# Altium footprint library sensor.PcbLib: 13 footprints
Each footprint in its own frame and in the unit in brackets; x right, y up, seen from the top. Pads: shape width x height; smd on the part's side, far side on the other; paste and mask are expansions set on the pad; w line width, h text height; cw(c..) or ccw(c..) is an arc to the next point about the centre after c.
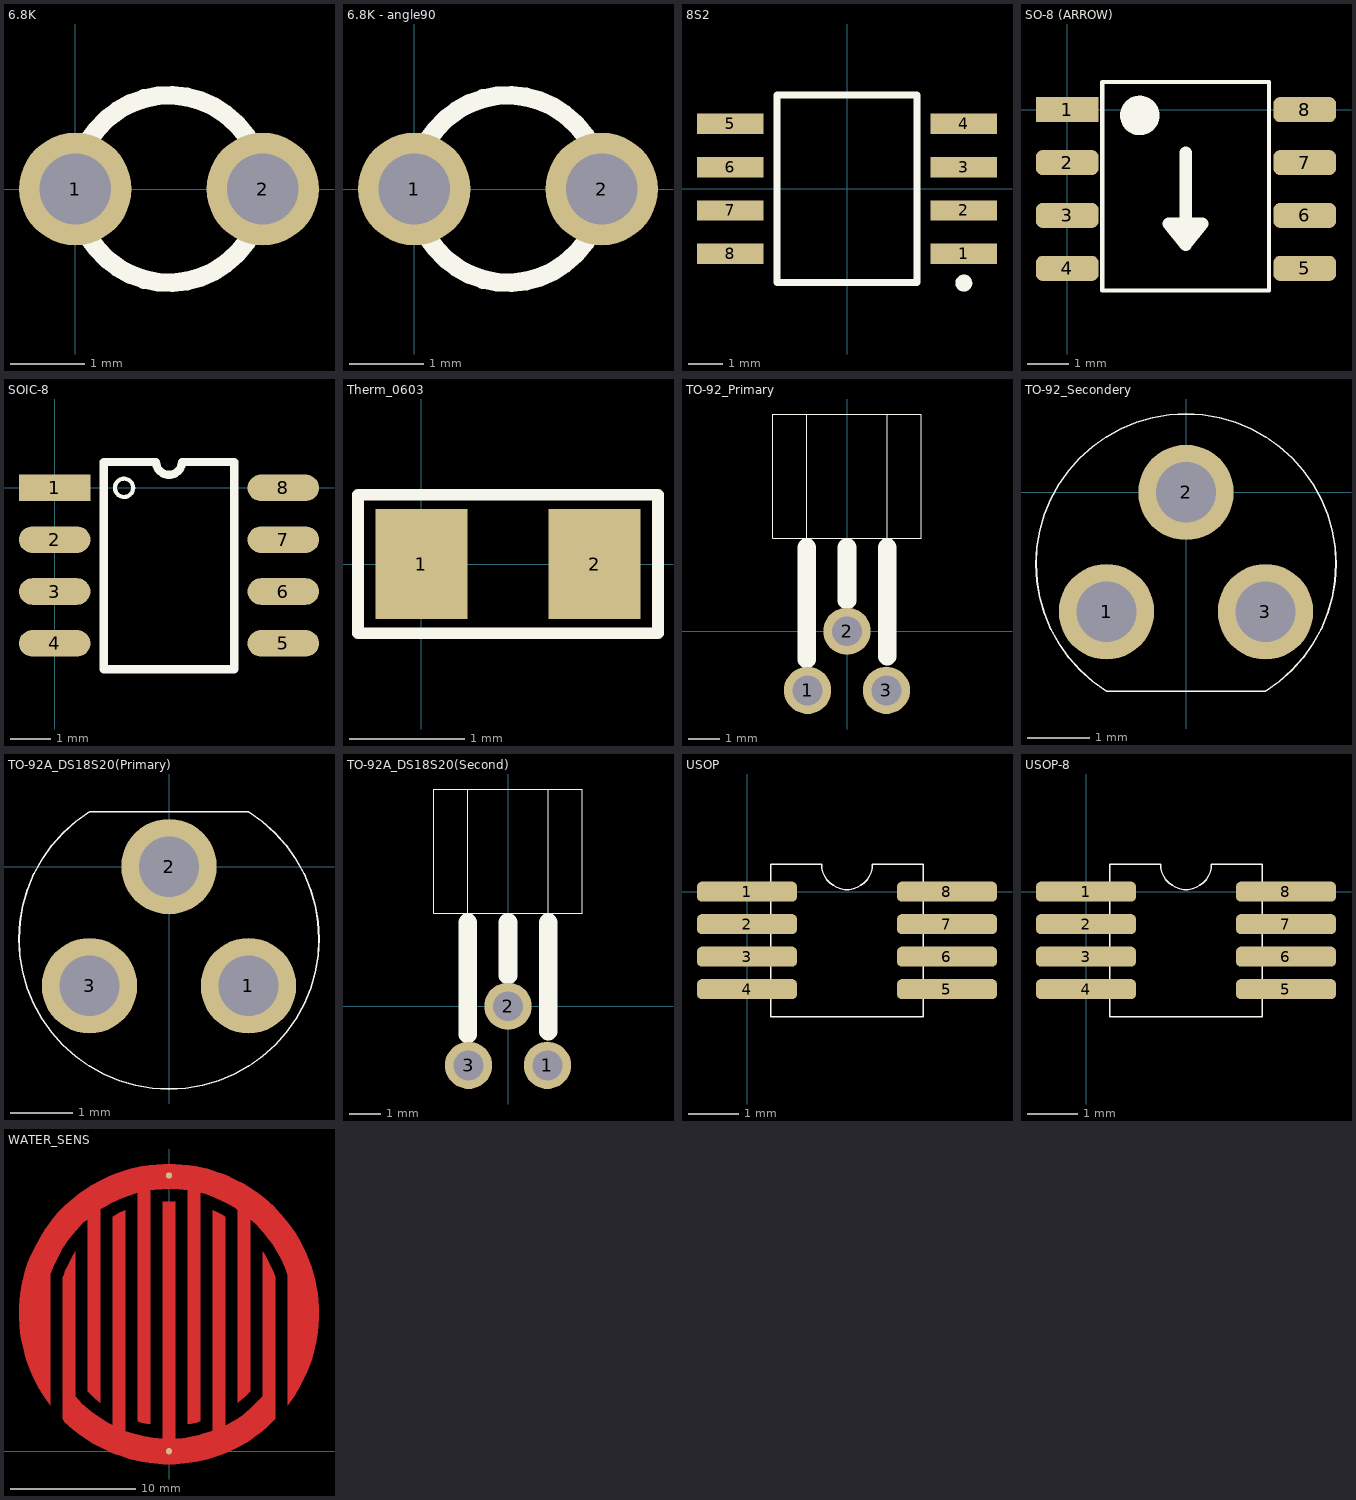
[diagram p0: the footprints below, top view; thin cyan lines are the x and y axes]

## 6.8K [mil]
pads (2):
  round 60 hole 38: 1(0,0) 2(100,0)
Top Overlay:
  circle w10: c50,0 r50
3D body "NTC-6,8k.sldprt": height 413.41, standoff -66.93, extent -14.52,-41.33 114.52,41.34

## 6.8K - angle90 [mil]
pads (2):
  round 60 hole 38: 1(0,0) 2(100,0)
Top Overlay:
  circle w10: c50,0 r50
3D body "NTC-6,8k.STEP": height 100.39, standoff -82.68, extent -14.32,-366.17 114.72,9.84

## 8S2 [mm]
pads (8):
  rect 1.95x0.6 smd: 1(3.425,-1.905) 2(3.425,-0.635) 3(3.425,0.635) 4(3.425,1.905) 5(-3.425,1.905) 6(-3.425,0.635) 7(-3.425,-0.635) 8(-3.425,-1.905)
Top Overlay:
  circle w0.25: c3.425,-2.765 r0.125
  lines w0.2: -2.05,-2.75 -2.05,2.75 2.05,2.75 2.05,-2.75 0.683,-2.75 -2.05,-2.75

## SO-8 (ARROW) [mm]
pads (8):
  rect 1.5x0.6 smd: 1(0,0)
  rrect50% 1.5x0.6 smd: 2(0,-1.27) 3(0,-2.54) 4(0,-3.81) 5(5.7,-3.81) 6(5.7,-2.54) 7(5.7,-1.27) 8(5.7,0)
Top Overlay:
  circle w0.5: c1.74,-0.14 r0.224
  lines w0.1: 0.84,-4.34 4.84,-4.34 4.84,0.66 0.84,0.66 0.84,-4.34
  lines w0.3: 2.84,-1.04 2.84,-3.24 ; 2.84,-3.24 2.44,-2.74 2.84,-2.74 3.24,-2.74 2.84,-3.24

## SOIC-8 [mm]
pads (8):
  rect 1.75x0.65 smd: 1(0,0)
  oval 1.75x0.65 smd: 2(0,-1.27) 3(0,-2.54) 4(0,-3.81) 5(5.6,-3.81) 6(5.6,-2.54) 7(5.6,-1.27) 8(5.6,0)
Top Overlay:
  circle w0.1: c1.7,0 r0.224
  lines w0.2: 1.2,-4.445 1.2,0.635 2.482,0.635 ccw(c2.8,0.635) 3.117,0.635 4.4,0.635 4.4,-4.445 1.2,-4.445

## Therm_0603 [mm]
pads (2):
  rect 0.8x0.95 smd: 1(0,0) 2(1.5,0)
Top Overlay:
  lines w0.1: -0.55,-0.6 2.05,-0.6 2.05,0.6 -0.55,0.6 -0.55,-0.6
3D body "res 0603.step": height 0.46, standoff -0.01, extent -0.052,-0.412 1.552,0.413

## TO-92_Primary [mil]
pads (3):
  round 60 hole 38: 1(-50,-75) 2(0,0) 3(50,-75)
Top Overlay:
  lines w1: -51.18,118.11 -51.18,275.59 ; 51.18,114.17 51.18,275.59 ; -94.49,118.11 94.49,118.11 94.49,275.59 -94.49,275.59 -94.49,118.11
  lines w23.62: -51.18,-35.43 -51.18,106.3 ; 0,39.37 0,106.3 ; 51.18,-31.5 51.18,106.3

## TO-92_Secondery [mil]
pads (3):
  round 60 hole 38: 1(-50,-75) 2(0,0) 3(50,-75)
Top Overlay:
  lines w1: -49.99,-125 cw(c0,-45) 49.99,-125 -50,-125

## TO-92A_DS18S20(Primary) [mil]
pads (3):
  round 60 hole 38: 1(50,-75) 2(0,0) 3(-50,-75)
Top Overlay:
  lines w1: -49.99,34.45 ccw(c0,-45.55) 49.99,34.45 -50,34.45

## TO-92A_DS18S20(Second) [mil]
pads (3):
  round 60 hole 38: 1(50,-75) 2(0,0) 3(-50,-75)
Top Overlay:
  lines w1: -51.18,118.11 -51.18,275.59 ; 51.18,114.17 51.18,275.59 ; -94.49,118.11 94.49,118.11 94.49,275.59 -94.49,275.59 -94.49,118.11
  lines w23.62: -51.18,-35.43 -51.18,106.3 ; 0,39.37 0,106.3 ; 51.18,-31.5 51.18,106.3

## USOP [mm]
pads (8):
  rrect50% 2x0.4 smd: 1(0,0) 2(0,-0.65) 3(0,-1.3) 4(0,-1.95) 5(4,-1.95) 6(4,-1.3) 7(4,-0.65) 8(4,0)
Top Overlay:
  lines w0.025: 0.475,-2.5 3.525,-2.5 3.525,0.55 2.508,0.55 cw(c2,0.55) 1.492,0.55 0.475,0.55 0.475,-2.5

## USOP-8 [mm]
pads (8):
  rrect50% 2x0.4 smd: 1(0,0) 2(0,-0.65) 3(0,-1.3) 4(0,-1.95) 5(4,-1.95) 6(4,-1.3) 7(4,-0.65) 8(4,0)
Top Overlay:
  lines w0.025: 0.475,-2.5 3.525,-2.5 3.525,0.55 2.508,0.55 cw(c2,0.55) 1.492,0.55 0.475,0.55 0.475,-2.5

## WATER_SENS [mm]
pads (2):
  round 0.5 smd: 1(0,0) 2(0,22.1)
Top Layer:
  region: 0.5,23.02 -0.1,23.02 -0.5,23.02 -1.6,22.92 -2.2,22.82 -3.1,22.62 -4.3,22.22 -4.8,22.02 -5.6,21.62 -6.2,21.3 -6.5,21.1 -7.1,20.7 -7.6,20.3 -8.3,19.7 -8.9,19.1 -9.4,18.5 -9.9,17.8 -10.4,17 -10.6,16.6 -11.1,15.6 -11.3,15.1 -11.5,14.5 -11.8,13.3 -11.9,12.6 -12,11.6 -12,11 -12,10.7 -11.9,9.4 -11.8,8.8 -11.6,8 -11.5,7.6 -11.3,7 -11,6.2 -10.7,5.6 -10.5,5.2 -10.2,4.7 -9.8,4.1 -9.6,3.8 -9.5,3.7 -9.5,4.2 -9.5,4.4 -9.5,14.2 -9.3,14.7 -9,15.4 -8.5,16.3 -8.3,16.6 -8.1,16.9 -7.7,17.4 -6.9,18.3 -6.5,18.6 -6.5,4.8 -6.2,4.5 -5.9,4.2 -5.5,3.9 -5.5,19.4 -4.8,19.8 -4.6,19.9 -4.4,20 -4,20.2 -3.1,20.52 -2.8,20.62 -2.5,20.7 -2.5,2.4 -2.2,2.3 -1.8,2.2 -1.5,2.2 -1.5,20.9 -0.8,21 -0.6,21 0,21.02 0.5,21.02 1.5,20.9 1.5,2.2 1.8,2.2 2.2,2.3 2.5,2.4 2.5,20.7 2.9,20.62 3.7,20.32 4.4,20 4.8,19.8 5.3,19.5 5.5,19.3 5.5,3.9 6.1,4.4 6.2,4.5 6.5,4.8 6.5,18.4 6.5,18.6 7,18.2 7.6,17.5 8,17 8.3,16.6 8.6,16.12 9,15.42 9.3,14.72 9.5,14.12 9.5,13.5 9.5,9.4 9.5,6.4 9.5,3.7 9.8,4.1 10.1,4.52 10.2,4.72 10.4,5.02 11,6.22 11.4,7.22 11.6,7.92 11.8,8.82 11.9,9.52 12,10.62 12,11.12 12,11.52 11.9,12.62 11.8,13.22 11.7,13.72 11.6,14.12 11.5,14.42 11.4,14.82 11.2,15.32 11,15.82 10.5,16.82 10.4,17.02 10.1,17.52 9.6,18.22 9.2,18.72 8.4,19.62 7.7,20.22 7.2,20.62 6.8,20.92 6,21.42 5.4,21.72 5,21.92 4.8,22.02 4.3,22.22 4,22.32 3.1,22.62 2.7,22.72 2.2,22.82 1.6,22.92
  region: -0.5,-1.02 0.1,-1.02 0.5,-1.02 1.6,-0.92 2.2,-0.82 3.1,-0.62 4.3,-0.22 4.8,-0.02 5.6,0.38 6.2,0.7 6.5,0.9 6.9,1.2 7.3,1.5 7.8,1.9 7.9,2 8.5,2.6 8.5,14 8.3,14.5 8.2,14.7 7.7,15.7 7.5,16 7.5,4.4 7.2,4.1 6.8,3.7 6.5,3.4 5.9,2.9 5.5,2.6 4.8,2.2 4.6,2.1 4.5,2.1 4.5,2.3 4.5,2.7 4.5,18.8 4.2,19 3.8,19.2 3.5,19.3 3.5,1.7 3.4,1.6 2.7,1.4 2.4,1.3 1.9,1.2 1.4,1.1 0.8,1 0.6,1 0.5,1 0.5,20 0,20 -0.5,20 -0.5,1 -1.3,1.1 -2,1.2 -2.8,1.4 -3.5,1.6 -3.5,2.1 -3.5,2.3 -3.5,2.5 -3.5,19.3 -4,19.1 -4.5,18.8 -4.5,2.1 -4.9,2.3 -5.4,2.6 -6.1,3.1 -6.5,3.4 -7,3.8 -7.5,4.4 -7.5,7.2 -7.5,10.7 -7.5,11.2 -7.5,11.4 -7.5,16 -7.8,15.5 -8.2,14.7 -8.3,14.5 -8.4,14.2 -8.5,13.9 -8.5,13.6 -8.5,7.3 -8.5,6.9 -8.5,6.4 -8.5,2.6 -8.4,2.38 -7.7,1.78 -7.2,1.38 -6.8,1.08 -6,0.58 -5.4,0.28 -5,0.08 -4.8,-0.02 -4.3,-0.22 -4,-0.32 -3.1,-0.62 -2.7,-0.72 -2.2,-0.82 -1.6,-0.92